# EAGLE library part PINHEAD_1X07 (library pinhead)
pinheader 7P
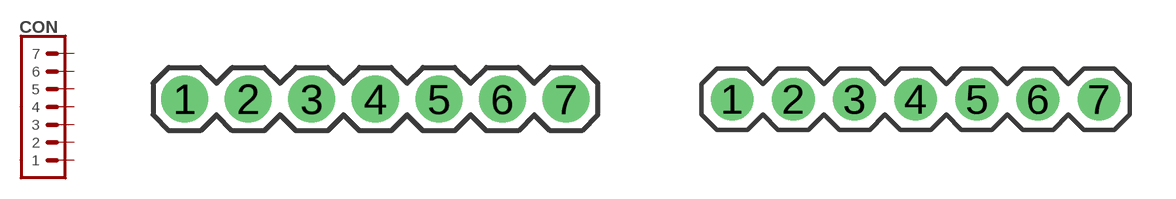
[diagram p16: symbol with the pads of PLS7; footprints PLS7, PLS2-7]

Designator prefix CON

## PINHEAD_1X07-2.54  [PLS7]
1  1  pas
2  2  pas
3  3  pas
4  4  pas
5  5  pas
6  6  pas
7  7  pas

## PINHEAD_1X07-2-MALE  [PLS2-7]
Pads as for PLS7

## PINHEAD_1X07-2-FEMALE  [PBS2-7]
Pads as for PLS7

## PINHEAD_1X07-2.54-FEMALE  [PBS7]
Pads as for PLS7

## PINHEAD_1X07-FB-7R (MANF: Connfly; MANF#: DS1020-07R)  [FB-7R]
Pads as for PLS7

## Footprint PLS7 (pad centres in mm)
3D model <https://grabcad.com/library/pls-connectors-1>
drill 1.016 pad 1.88: 1 -7.62,0; 2 -5.08,0; 3 -2.54,0; 4 0,0; 5 2.54,0; 6 5.08,0; 7 7.62,0

## Footprint PLS2-7 (pad centres in mm)
3D model <https://grabcad.com/library/pls2-connectors-1>
drill 0.8 pad 1.4: 1 -6,0; 2 -4,0; 3 -2,0; 4 0,0; 5 2,0; 6 4,0; 7 6,0

## Footprint PBS2-7 (pad centres in mm)
3D model <https://grabcad.com/library/pbs2-connectors-h6-35-1>
drill 0.8 pad 1.4: 1 -6,0; 2 -4,0; 3 -2,0; 4 0,0; 5 2,0; 6 4,0; 7 6,0

## Footprint PBS7 (pad centres in mm)
3D model <https://grabcad.com/library/pbs-connectors-1>
drill 1 pad 1.8: 1 -7.62,0; 2 -5.08,0; 3 -2.54,0; 4 0,0; 5 2.54,0; 6 5.08,0; 7 7.62,0

## Footprint FB-7R (pad centres in mm)
drill 1.016 pad 1.88: 1 -7.62,0; 2 -5.08,0; 3 -2.54,0; 4 0,0; 5 2.54,0; 6 5.08,0; 7 7.62,0